# Altium footprint library QFN40P300X500X80-31N-D.PcbLib: 1 footprints
Each footprint in its own frame and in the unit in brackets; x right, y up, seen from the top. Pads: shape width x height; smd on the part's side, far side on the other; paste and mask are expansions set on the pad; w line width, h text height; cw(c..) or ccw(c..) is an arc to the next point about the centre after c.
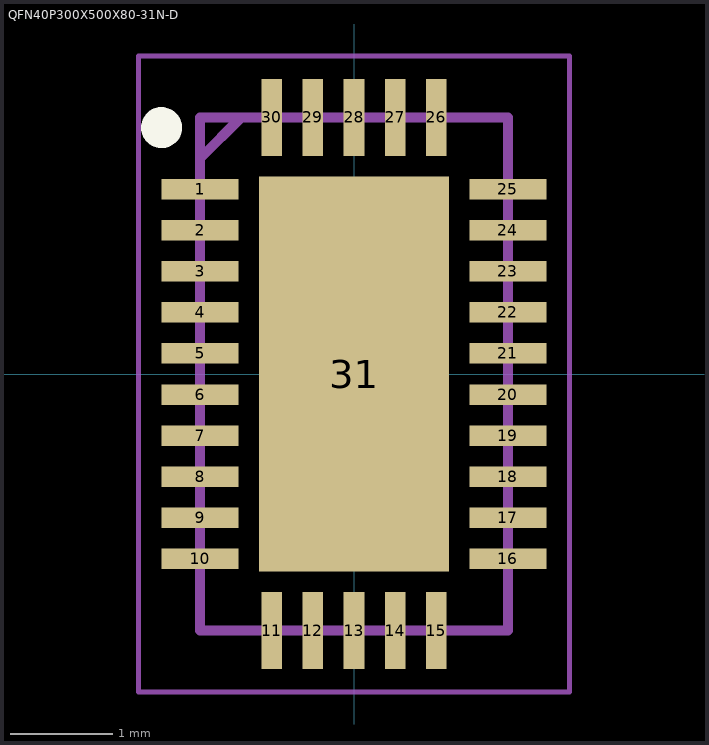
[diagram p0: the footprint, top view; thin cyan lines are the x and y axes]

## QFN40P300X500X80-31N-D [mm]
pads (31):
  rect 0.75x0.2 smd: 1(-1.5,1.8) 2(-1.5,1.4) 3(-1.5,1) 4(-1.5,0.6) 5(-1.5,0.2) 6(-1.5,-0.2) 7(-1.5,-0.6) 8(-1.5,-1) 9(-1.5,-1.4) 10(-1.5,-1.8) 16(1.5,-1.8) 17(1.5,-1.4) 18(1.5,-1) 19(1.5,-0.6) 20(1.5,-0.2) 21(1.5,0.2) 22(1.5,0.6) 23(1.5,1) 24(1.5,1.4) 25(1.5,1.8)
  rect 0.2x0.75 smd: 11(-0.8,-2.5) 12(-0.4,-2.5) 13(0,-2.5) 14(0.4,-2.5) 15(0.8,-2.5) 26(0.8,2.5) 27(0.4,2.5) 28(0,2.5) 29(-0.4,2.5) 30(-0.8,2.5)
  rect 1.85x3.85 smd: 31(0,0)
Top Overlay:
  circle w0.2: c-1.875,2.4 r0.1
Mechanical 15:
  lines w0.1: -1.5,2.1 -1.1,2.5 ; -1.5,-2.5 1.5,-2.5 1.5,2.5 -1.5,2.5 -1.5,-2.5
Mechanical 20:
  lines w0.05: -2.1,-3.1 2.1,-3.1 2.1,3.1 -2.1,3.1 -2.1,-3.1